# Altium footprint library Display.PcbLib: 52 footprints (part 4 of 4)
Each footprint in its own frame and in the unit in brackets; x right, y up, seen from the top. Pads: shape width x height; smd on the part's side, far side on the other; paste and mask are expansions set on the pad; w line width, h text height; cw(c..) or ccw(c..) is an arc to the next point about the centre after c.
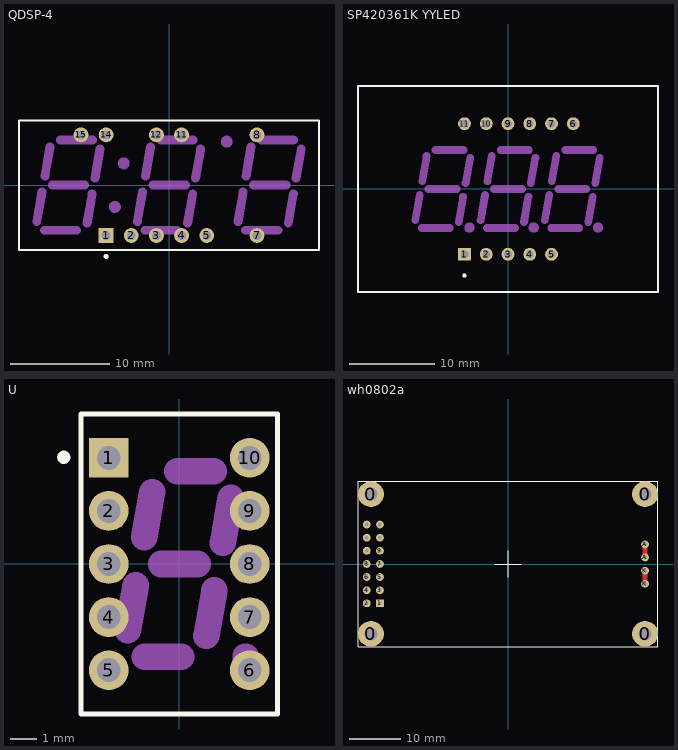
[diagram p3: the footprints below, top view; thin cyan lines are the x and y axes]

## QDSP-4 [mm] "LED, 7-Segment Display, 10 mm, Three Digit; 15 Leads (4 Absent); Row Space 10.16 mm; Pitch 2.54 mm"
height 7.25
pads (11):
  rect 1.5x1.5 hole 0.9: 1(-6.35,-5.08)
  round 1.5 hole 0.9: 2(-3.81,-5.08) 3(-1.27,-5.08) 4(1.27,-5.08) 5(3.81,-5.08) 7(8.89,-5.08) 8(8.89,5.08) 11(1.27,5.08) 12(-1.27,5.08) 14(-6.35,5.08) 15(-8.89,5.08)
Top Overlay:
  circle w0.25: c-6.35,-7.2 r0.125
  lines w0.2: -15.15,-6.55 -15.15,6.55 15.15,6.55 15.15,-6.55 -15.15,-6.55
Mechanical 1:
  circle w0.86: c-4.57,2.2 r0.17
  circle w0.86: c-5.47,-2.2 r0.17
  circle w0.86: c5.83,4.4 r0.17
  lines w0.9: -13.36,-3.65 -12.83,-0.7 ; -12.592,-4.55 -9.33,-4.55 ; -12.54,0.9 -12.03,3.84 ; -11.79,0 -8.51,0 ; -10.988,4.55 -7.72,4.55 ; -8.28,-3.85 -7.76,-0.9 ; -7.48,0.7 -6.96,3.65 ; -3.2,-3.65 -2.67,-0.7 ; -2.432,-4.55 0.83,-4.55 ; -2.38,0.9 -1.87,3.84 ; -1.63,0 1.65,0 ; -0.828,4.55 2.44,4.55 ; 1.88,-3.85 2.4,-0.9 ; 2.68,0.7 3.2,3.65 ; 6.96,-3.65 7.49,-0.7 ; 7.728,-4.55 10.99,-4.55 ; 7.78,0.9 8.29,3.84 ; 8.53,0 11.81,0 ; 9.332,4.55 12.6,4.55 ; 12.04,-3.85 12.56,-0.9 ; 12.84,0.7 13.36,3.65

## SP420361K YYLED [mm]
height 8.25
pads (11):
  rect 1.5x1.5 hole 0.9: 1(-5.08,-7.62)
  round 1.5 hole 0.9: 2(-2.54,-7.62) 3(0,-7.62) 4(2.54,-7.62) 5(5.08,-7.62) 6(7.62,7.62) 7(5.08,7.62) 8(2.54,7.62) 9(0,7.62) 10(-2.54,7.62) 11(-5.08,7.62)
Top Overlay:
  circle w0.25: c-5.08,-10.1 r0.125
  lines w0.254: -17.5,-12 17.5,-12 17.5,12 -17.5,12 -17.5,-12
Mechanical 1:
  circle w0.86: c-4.5,-4.5 r0.17
  circle w0.86: c3,-4.5 r0.17
  circle w0.86: c10.5,-4.5 r0.17
  lines w0.9: -10.82,-3.65 -10.3,-0.7 ; -10.06,-4.55 -6.792,-4.55 ; -10.02,0.9 -9.5,3.85 ; -9.27,0 -5.99,0 ; -8.45,4.55 -5.188,4.55 ; -5.75,-3.84 -5.24,-0.9 ; -4.95,0.7 -4.42,3.65 ; -3.2,-3.65 -2.68,-0.7 ; -2.44,-4.55 0.828,-4.55 ; -2.4,0.9 -1.88,3.85 ; -1.65,0 1.63,0 ; -0.83,4.55 2.432,4.55 ; 1.87,-3.84 2.38,-0.9 ; 2.67,0.7 3.2,3.65 ; 4.3,-3.65 4.82,-0.7 ; 5.06,-4.55 8.328,-4.55 ; 5.1,0.9 5.62,3.85 ; 5.85,0 9.13,0 ; 6.67,4.55 9.932,4.55 ; 9.37,-3.84 9.88,-0.9 ; 10.17,0.7 10.7,3.65

## U [mm] "LED, 7-Segment Display, 8 mm, RHD; 10 Leads; Row Space 5.31 mm; Pitch 2.01 mm"
height 5.26
pads (10):
  rect 1.5x1.5 hole 0.9: 1(-2.655,4)
  round 1.5 hole 0.9: 2(-2.655,2) 3(-2.655,0) 4(-2.655,-2) 5(-2.655,-4) 6(2.655,-4) 7(2.655,-2) 8(2.655,0) 9(2.655,2) 10(2.655,4)
Top Overlay:
  circle w0.25: c-4.35,4.02 r0.125
  lines w0.2: -3.7,-5.65 3.7,-5.65 3.7,5.65 -0.635,5.65 -3.7,5.65 -3.7,-5.65
Mechanical 1:
  circle w0.75: c2.5,-3.5 r0.13
  lines w1: -1.939,-2.497 -1.642,-0.801 ; -1.322,1.002 -1.024,2.699 ; -1.302,-3.5 0.066,-3.5 ; -0.685,0 0.686,0 ; -0.067,3.5 1.303,3.5 ; 1.024,-2.699 1.324,-0.999 ; 1.641,0.802 1.938,2.5

## wh0802a [mm] "ÆÊÈ 8õ2"
pads (22):
  round 5 hole 2.5: 0(-26.5,-13.5) 0(-26.5,13.5) 0(26.5,-13.5) 0(26.5,13.5)
  rect 1.5x1.5 hole 0.7: 1(-24.76,-7.61)
  round 1.5 hole 0.7: 2(-27.3,-7.61) 3(-24.76,-5.07) 4(-27.3,-5.07) 5(-24.76,-2.53) 6(-27.3,-2.53) 7(-24.76,0.01) 8(-27.3,0.01) 9(-24.76,2.55) 10(-27.3,2.55) 11(-24.76,5.09) 12(-27.3,5.09) 13(-24.76,7.63) 14(-27.3,7.63) A(26.5,1.26) A(26.5,3.785) K(26.5,-3.83) K(26.5,-1.285)
Top Layer:
  rectangle: 26,1.785 27,3.285
  rectangle: 26,-3.215 27,-1.715
  text "A" at 24,1.785 h1.52
  text "K" at 24,-3.215 h1.52
Top Overlay:
  lines w0.1: -2.54,0 2.54,0 ; 0,-2.54 0,2.54 ; -29,-16 -29,16 0,16 29,16 29,-16 0,-16 -29,-16
3D body "User Library-LCD0802.step": height 12.7, standoff -0.25, extent -29,-16 29,16